# Altium footprint library Micro USB_1.PcbLib: 1 footprints
Each footprint in its own frame and in the unit in brackets; x right, y up, seen from the top. Pads: shape width x height; smd on the part's side, far side on the other; paste and mask are expansions set on the pad; w line width, h text height; cw(c..) or ccw(c..) is an arc to the next point about the centre after c.
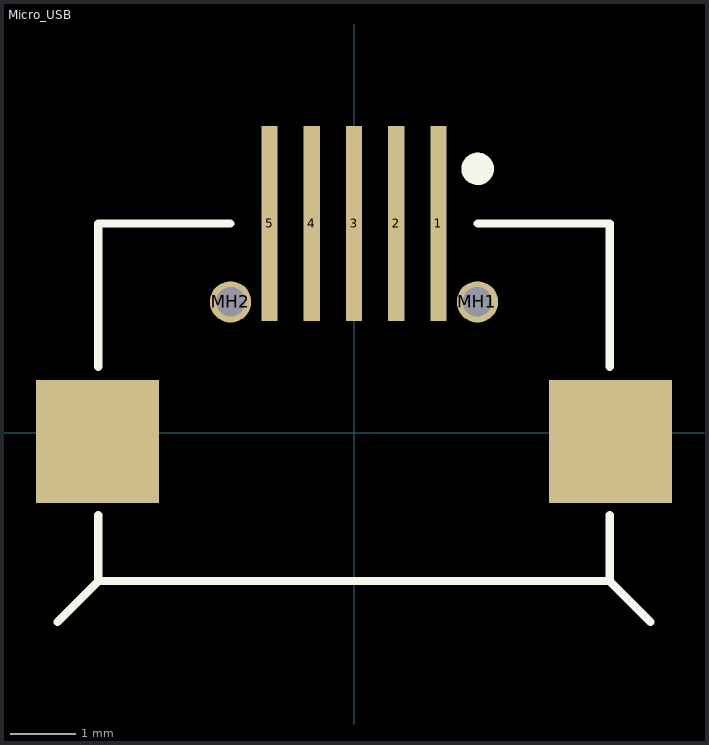
[diagram p0: the footprint, top view; thin cyan lines are the x and y axes]

## Micro_USB [mm] "5P 贴片 带定位柱"
height 2.9
pads (9):
  rect 0.25x3 smd: 1(1.3,3.222) 2(0.65,3.222) 3(0,3.222) 4(-0.65,3.222) 5(-1.3,3.222)
  round 0.635 hole 0.457 unplated: MH1(1.9,2.014) MH2(-1.9,2.014)
  rect 1.9x1.9 smd: ""(-3.95,-0.136) ""(3.95,-0.136)
Top Overlay:
  circle w0.25: c1.905,4.062 r0.125
  lines w0.127: -4.567,-2.916 -3.937,-2.286 -3.937,-1.27 ; -3.937,1.016 -3.937,3.222 ; -3.9,-2.286 3.9,-2.286 ; -3.9,3.222 -1.905,3.222 ; 1.905,3.222 3.9,3.222 ; 3.937,-1.27 3.937,-2.286 4.567,-2.916 ; 3.937,1.016 3.937,3.222